# Altium footprint library DisplayBoard.PcbLib: 2 footprints
Each footprint in its own frame and in the unit in brackets; x right, y up, seen from the top. Pads: shape width x height; smd on the part's side, far side on the other; paste and mask are expansions set on the pad; w line width, h text height; cw(c..) or ccw(c..) is an arc to the next point about the centre after c.
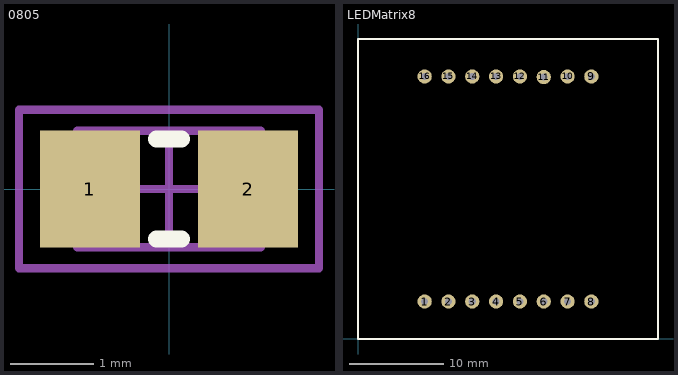
[diagram p0: the footprints below, top view; thin cyan lines are the x and y axes]

## 0805 [mm] "Chip Resistor, 2-Leads, Body 2.0x1.3mm, IPC Medium Density"
height 0.6
pads (2):
  rect 1.2x1.4 smd: 1(-0.95,0) 2(0.95,0)
Top Overlay:
  lines w0.2: -0.15,-0.6 0.15,-0.6 ; -0.15,0.6 0.15,0.6
Mechanical 13:
  lines w0.1: -1.1,-0.7 1.1,-0.7 1.1,0.7 -1.1,0.7 -1.1,-0.7
Mechanical 15:
  lines w0.1: -0.5,0 0.5,0 ; 0,-0.5 0,0.5 ; -1.8,-0.95 1.8,-0.95 1.8,0.95 -1.8,0.95 -1.8,-0.95
3D body: height 0.6, standoff 0, extent -1.1,-0.7 1.1,0.7

## LEDMatrix8 [mil]
pads (16):
  round 60 hole 30: 1(279.92,157.48) 2(379.92,157.48) 3(479.92,157.48) 4(579.92,157.48) 5(679.92,157.48) 6(779.92,157.48) 7(879.92,157.48) 8(979.92,157.48) 9(979.92,1102.36) 10(879.92,1102.36) 11(779.92,1100) 12(679.92,1102.36) 13(579.92,1102.36) 14(479.92,1102.36) 15(379.92,1102.36) 16(279.92,1102.36)
Top Overlay:
  lines w10: 0,0 1259.84,0 1259.84,1259.84 0,1259.84 0,0